# Altium integrated library Capacitors.IntLib: 88 symbols
Pins are listed as number, name and electrical type; pins without a type are passive.

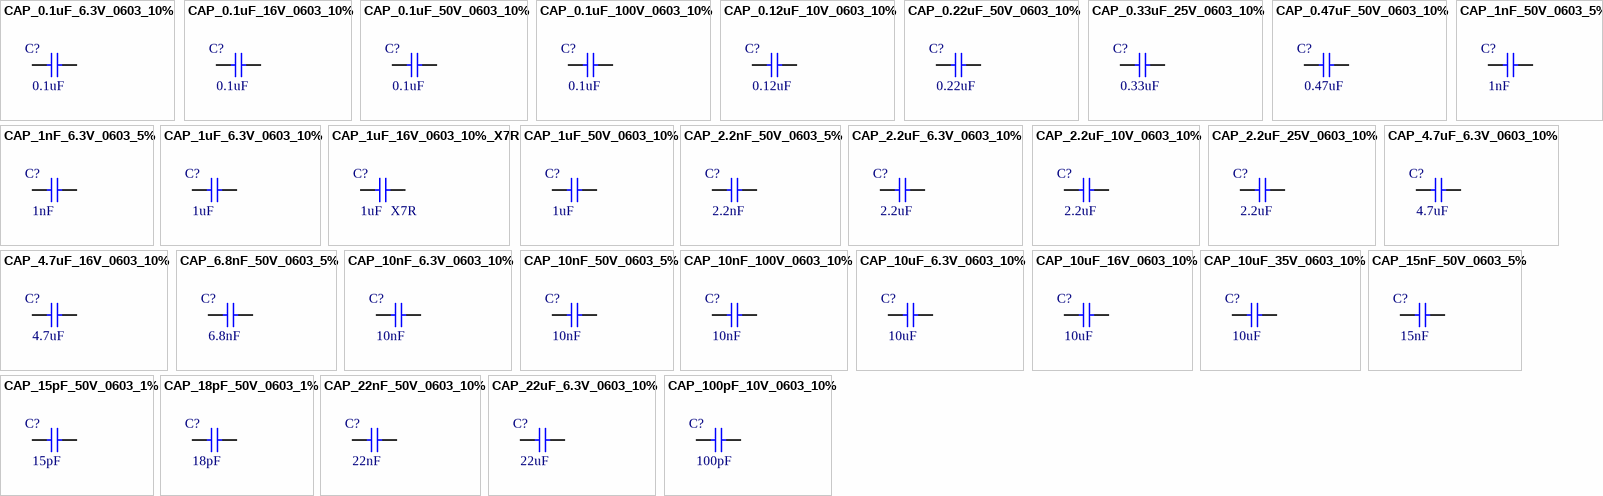
[diagram p0: symbols CAP_0.1uF_6.3V_0603_10% to CAP_100pF_10V_0603_10%]

## CAP_0.1uF_6.3V_0603_10%
designator C?, comment value 0.1uF  (hidden comment: 0.1uF 6.3V 0603)
0.1uF 6.3V 10% 0603 (1608 Metric); PartNumber: GRM188R70J104KA01D; Manufacturer: Murata; Mounting Technology: Surface Mount; PackageReference: 0603; PackageDescription: 0603 (1608 Metric); Voltage: 6.3V; Tolerance: 10%
footprint C0603[1608X92] (Chip Capacitor, Body 1.6x0.8mm)
pins: 1, 2

## CAP_0.1uF_16V_0603_10%
designator C?, comment value 0.1uF  (hidden comment: 0.1uF 16V 0603)
0.1uF 16V 10% 0603 (1608 Metric); PartNumber: GCM188R71C104KA37D; Manufacturer: Murata; TemperatureCoefficient: X7R; Mounting Technology: Surface Mount; PackageReference: 0603; PackageDescription: 0603 (1608 Metric); Voltage: 16V; Tolerance: 10%
footprint C0603[1608X92] (Chip Capacitor, Body 1.6x0.8mm)
pins: 1, 2

## CAP_0.1uF_50V_0603_10%
designator C?, comment value 0.1uF  (hidden comment: 0.1uF 50V 0603)
0.1uF 50V 10% 0603 (1608 Metric); PartNumber: GCM188R71H104KA57D; Manufacturer: Murata; TemperatureCoefficient: X7R; Mounting Technology: Surface Mount; PackageReference: 0603; PackageDescription: 0603 (1608 Metric); Voltage: 50V; Tolerance: 10%
footprint C0603[1608X92] (Chip Capacitor, Body 1.6x0.8mm)
pins: 1, 2

## CAP_0.1uF_100V_0603_10%
designator C?, comment value 0.1uF  (hidden comment: 0.1uF 100V 0603)
0.1uF 100V 10% 0603 (1608 Metric); PartNumber: GRM188R72A104KA35D; Manufacturer: Murata; TemperatureCoefficient: X7R; Mounting Technology: Surface Mount; PackageReference: 0603; PackageDescription: 0603 (1608 Metric); Voltage: 100V; Tolerance: 10%
footprint C0603[1608X92] (Chip Capacitor, Body 1.6x0.8mm)
pins: 1, 2

## CAP_0.12uF_10V_0603_10%
designator C?, comment value 0.12uF  (hidden comment: 0.12uF 10V 0603)
0.12uF 10V 10% 0603 (1608 Metric); PartNumber: GRM188R71A124KA01D; Manufacturer: Murata; TemperatureCoefficient: X7R; Mounting Technology: Surface Mount; PackageReference: 0603; PackageDescription: 0603 (1608 Metric); Voltage: 10V; Tolerance: 10%
footprint C0603[1608X92] (Chip Capacitor, Body 1.6x0.8mm)
pins: 1, 2

## CAP_0.22uF_50V_0603_10%
designator C?, comment value 0.22uF  (hidden comment: 0.22uF 50V 0603)
0.22uF 50V 10% 0603 (1608 Metric); PartNumber: GRM188R61H224KAC4D; Manufacturer: Murata; TemperatureCoefficient: X7R; Mounting Technology: Surface Mount; PackageReference: 0603; PackageDescription: 0603 (1608 Metric); Voltage: 50V; Tolerance: 10%
footprint C0603[1608X92] (Chip Capacitor, Body 1.6x0.8mm)
pins: 1, 2

## CAP_0.33uF_25V_0603_10%
designator C?, comment value 0.33uF  (hidden comment: 0.33uF 25V 0603)
0.33uF 25V 10% 0603 (1608 Metric); PartNumber: GCJ188R91E334KA01D; Manufacturer: Murata; TemperatureCoefficient: X8R; Mounting Technology: Surface Mount; PackageReference: 0603; PackageDescription: 0603 (1608 Metric); Voltage: 25V; Tolerance: 10%
footprint C0603[1608X92] (Chip Capacitor, Body 1.6x0.8mm)
pins: 1, 2

## CAP_0.47uF_50V_0603_10%
designator C?, comment value 0.47uF  (hidden comment: 0.47uF 50V 0603)
0.47uF 50V 10% 0603 (1608 Metric); PartNumber: GRM188R61H474KA12D; Manufacturer: Murata; TemperatureCoefficient: X5R; Mounting Technology: Surface Mount; PackageReference: 0603; PackageDescription: 0603 (1608 Metric); Voltage: 50V; Tolerance: 10%
footprint C0603[1608X92] (Chip Capacitor, Body 1.6x0.8mm)
pins: 1, 2

## CAP_1nF_6.3V_0603_5%
designator C?, comment value 1nF  (hidden comment: 1nF 6.3V 0603)
1nF 6.3V 5% 0603 (1608 Metric); PartNumber: 06036C102KAT4A; Manufacturer: AVX Corporation; Tolerance: 10%; TemperatureCoefficient: X7R; Mounting Technology: Surface Mount; PackageReference: 0603; PackageDescription: 0603 (1608 Metric); Voltage: 6.3V
footprint C0603[1608X92] (Chip Capacitor, Body 1.6x0.8mm)
pins: 1, 2

## CAP_1nF_50V_0603_5%
designator C?, comment value 1nF  (hidden comment: 1nF 50V 0603)
1nF 50V 5% 0603 (1608 Metric); PartNumber: GRM1885C1H102JA01D; Manufacturer: Murata; TemperatureCoefficient: C0G; Mounting Technology: Surface Mount; PackageReference: 0603; PackageDescription: 0603 (1608 Metric); Voltage: 50V; Tolerance: 5%
footprint C0603[1608X92] (Chip Capacitor, Body 1.6x0.8mm)
pins: 1, 2

## CAP_1uF_6.3V_0603_10%
designator C?, comment value 1uF  (hidden comment: 1uF 6.3V 0603)
1uF 6.3V 10% 0603 (1608 Metric); PartNumber: GRM188R60J105KA01D; Manufacturer: Murata; TemperatureCoefficient: X5R; Mounting Technology: Surface Mount; PackageReference: 0603; PackageDescription: 0603 (1608 Metric); Voltage: 6.3V; Tolerance: 10%
footprint C0603[1608X92] (Chip Capacitor, Body 1.6x0.8mm)
pins: 1, 2

## CAP_1uF_16V_0603_10%_X7R
designator C?, comment value 1uF  TemperatureCoefficient: X7R  (hidden comment: 1uF 16V 0603 X7R)
1uF 16V 10% 0603 X7R (1608 Metric); PartNumber: GCJ188R71E105KA01D; Manufacturer: Murata; Mounting Technology: Surface Mount; PackageReference: 0603; PackageDescription: 0603 (1608 Metric); Voltage: 16V; Tolerance: 10%
footprint C0603[1608X92] (Chip Capacitor, Body 1.6x0.8mm)
pins: 1, 2

## CAP_1uF_50V_0603_10%
designator C?, comment value 1uF  (hidden comment: 1uF 50V 0603)
1uF 50V 10% 0603 (1608 Metric); PartNumber: GRM188R61H105KAALD; Manufacturer: Murata; TemperatureCoefficient: X5R; Mounting Technology: Surface Mount; PackageReference: 0603; PackageDescription: 0603 (1608 Metric); Voltage: 50V; Tolerance: 10%
footprint C0603[1608X92] (Chip Capacitor, Body 1.6x0.8mm)
pins: 1, 2

## CAP_2.2nF_50V_0603_5%
designator C?, comment value 2.2nF  (hidden comment: 2.2nF 50V 0603)
2.2nF 50V 5% 0603 (1608 Metric); PartNumber: GRM1885C1H222JA01D; Manufacturer: Murata; TemperatureCoefficient: C0G; Mounting Technology: Surface Mount; PackageReference: 0603; PackageDescription: 0603 (1608 Metric); Voltage: 50V; Tolerance: 5%
footprint C0603[1608X92] (Chip Capacitor, Body 1.6x0.8mm)
pins: 1, 2

## CAP_2.2uF_6.3V_0603_10%
designator C?, comment value 2.2uF  (hidden comment: 2.2uF 6.3V 0603)
2.2uF 6.3V 10% 0603 (1608 Metric); PartNumber: GRM185R60J225KE26D; Manufacturer: Murata; TemperatureCoefficient: X5R; Mounting Technology: Surface Mount; PackageReference: 0603; PackageDescription: 0603 (1608 Metric); Voltage: 6.3V; Tolerance: 10%
footprint C0603[1608X92] (Chip Capacitor, Body 1.6x0.8mm)
pins: 1, 2

## CAP_2.2uF_10V_0603_10%
designator C?, comment value 2.2uF  (hidden comment: 2.2uF 10V 0603)
2.2uF 10V 10% 0603 (1608 Metric); PartNumber: GRT188R61A225KE13D; Manufacturer: Murata; TemperatureCoefficient: X5R; Mounting Technology: Surface Mount; PackageReference: 0603; PackageDescription: 0603 (1608 Metric); Voltage: 10V; Tolerance: 10%
footprint C0603[1608X92] (Chip Capacitor, Body 1.6x0.8mm)
pins: 1, 2

## CAP_2.2uF_25V_0603_10%
designator C?, comment value 2.2uF  (hidden comment: 2.2uF 25V 0603)
2.2uF 25V 10% 0603 (1608 Metric); PartNumber: GRM188R61E225KA12D; Manufacturer: Murata; TemperatureCoefficient: X5R; Mounting Technology: Surface Mount; PackageReference: 0603; PackageDescription: 0603 (1608 Metric); Voltage: 25V; Tolerance: 10%
footprint C0603[1608X92] (Chip Capacitor, Body 1.6x0.8mm)
pins: 1, 2

## CAP_4.7uF_6.3V_0603_10%
designator C?, comment value 4.7uF  (hidden comment: 4.7uF 6.3V 0603)
4.7uF 6.3V 10% 0603 (1608 Metric); PartNumber: GRM188R60J475KE19J; Manufacturer: Murata; TemperatureCoefficient: X5R; Mounting Technology: Surface Mount; PackageReference: 0603; PackageDescription: 0603 (1608 Metric); Voltage: 6.3V; Tolerance: 10%
footprint C0603[1608X92] (Chip Capacitor, Body 1.6x0.8mm)
pins: 1, 2

## CAP_4.7uF_16V_0603_10%
designator C?, comment value 4.7uF  (hidden comment: 4.7uF 16V 0603)
4.7uF 16V 10% 0603 (1608 Metric); PartNumber: GRM188R61A475KE15D; Manufacturer: Murata; TemperatureCoefficient: X5R; Mounting Technology: Surface Mount; PackageReference: 0603; PackageDescription: 0603 (1608 Metric); Voltage: 16V; Tolerance: 10%
footprint C0603[1608X92] (Chip Capacitor, Body 1.6x0.8mm)
pins: 1, 2

## CAP_6.8nF_50V_0603_5%
designator C?, comment value 6.8nF  (hidden comment: 6.8nF 50V 0603)
6.8nF 50V 5% 0603 (1608 Metric); PartNumber: GRM1885C1H682JA01D; Manufacturer: Murata; TemperatureCoefficient: C0G; Mounting Technology: Surface Mount; PackageReference: 0603; PackageDescription: 0603 (1608 Metric); Voltage: 50V; Tolerance: 5%
footprint C0603[1608X92] (Chip Capacitor, Body 1.6x0.8mm)
pins: 1, 2

## CAP_10nF_6.3V_0603_10%
designator C?, comment value 10nF  (hidden comment: 10nF 6.3V 0603)
10nF 6.3V 10% 0603 (1608 Metric); PartNumber: GRM188R70J103KA01D; Manufacturer: Murata; TemperatureCoefficient: X7R; Mounting Technology: Surface Mount; PackageReference: 0603; PackageDescription: 0603 (1608 Metric); Voltage: 6.3V; Tolerance: 10%
footprint C0603[1608X92] (Chip Capacitor, Body 1.6x0.8mm)
pins: 1, 2

## CAP_10nF_50V_0603_5%
designator C?, comment value 10nF  (hidden comment: 10nF 50V 0603)
10nF 50V 5% 0603 (1608 Metric); PartNumber: GRM188R71H103JA01D; Manufacturer: Murata; TemperatureCoefficient: X7R; Mounting Technology: Surface Mount; PackageReference: 0603; PackageDescription: 0603 (1608 Metric); Voltage: 50V; Tolerance: 5%
footprint C0603[1608X92] (Chip Capacitor, Body 1.6x0.8mm)
pins: 1, 2

## CAP_10nF_100V_0603_10%
designator C?, comment value 10nF  (hidden comment: 10nF 100V 0603)
10nF 100V 10% 0603 (1608 Metric); PartNumber: GRM188R72A103KA01D; Manufacturer: Murata; TemperatureCoefficient: X7R; Mounting Technology: Surface Mount; PackageReference: 0603; PackageDescription: 0603 (1608 Metric); Voltage: 100V; Tolerance: 10%
footprint C0603[1608X92] (Chip Capacitor, Body 1.6x0.8mm)
pins: 1, 2

## CAP_10uF_6.3V_0603_10%
designator C?, comment value 10uF  (hidden comment: 10uF 6.3V 0603)
10uF 6.3V 10% 0603 (1608 Metric); PartNumber: GRM188R60J106KE47D; Manufacturer: Murata; TemperatureCoefficient: X5R; Mounting Technology: Surface Mount; PackageReference: 0603; PackageDescription: 0603 (1608 Metric); Voltage: 6.3V; Tolerance: 10%
footprint C0603[1608X92] (Chip Capacitor, Body 1.6x0.8mm)
pins: 1, 2

## CAP_10uF_16V_0603_10%
designator C?, comment value 10uF  (hidden comment: 10uF 16V 0603)
10uF 16V 10% 0603 (1608 Metric); PartNumber: GRM188R61C106KAALD; Manufacturer: Murata; TemperatureCoefficient: X5R; Mounting Technology: Surface Mount; PackageReference: 0603; PackageDescription: 0603 (1608 Metric); Voltage: 16V; Tolerance: 10%
footprint C0603[1608X92] (Chip Capacitor, Body 1.6x0.8mm)
pins: 1, 2

## CAP_10uF_35V_0603_10%
designator C?, comment value 10uF  (hidden comment: 10uF 35V 0603)
10uF 35V 10% 0603 (1608 Metric); PartNumber: GRM188R6YA106MA73D; Manufacturer: Murata; TemperatureCoefficient: X5R; Mounting Technology: Surface Mount; PackageReference: 0603; PackageDescription: 0603 (1608 Metric); Voltage: 35V; Tolerance: 10%
footprint C0603[1608X92] (Chip Capacitor, Body 1.6x0.8mm)
pins: 1, 2

## CAP_15nF_50V_0603_5%
designator C?, comment value 15nF  (hidden comment: 15nF 50V 0603)
15nF 50V 5% 0603 (1608 Metric); PartNumber: GRM188R71H153JA01D; Manufacturer: Murata; TemperatureCoefficient: X7R; Mounting Technology: Surface Mount; PackageReference: 0603; PackageDescription: 0603 (1608 Metric); Voltage: 50V; Tolerance: 5%
footprint C0603[1608X92] (Chip Capacitor, Body 1.6x0.8mm)
pins: 1, 2

## CAP_15pF_50V_0603_1%
designator C?, comment value 15pF  (hidden comment: 15pF 50V 0603)
15pF 50V 1% 0603 (1608 Metric); PartNumber: 06035A150FAT2A; Manufacturer: AVX Corporation; TemperatureCoefficient: C0G; Mounting Technology: Surface Mount; PackageReference: 0603; PackageDescription: 0603 (1608 Metric); Voltage: 50V; Tolerance: 1%
footprint C0603[1608X92] (Chip Capacitor, Body 1.6x0.8mm)
pins: 1, 2

## CAP_18pF_50V_0603_1%
designator C?, comment value 18pF  (hidden comment: 18pF 50V 0603)
18pF 50V 1% 0603 (1608 Metric); PartNumber: 06035A180FAT2A; Manufacturer: AVX Corporation; TemperatureCoefficient: C0G; Mounting Technology: Surface Mount; PackageReference: 0603; PackageDescription: 0603 (1608 Metric); Voltage: 50V; Tolerance: 1%
footprint C0603[1608X92] (Chip Capacitor, Body 1.6x0.8mm)
pins: 1, 2

## CAP_22nF_50V_0603_10%
designator C?, comment value 22nF  (hidden comment: 22nF 50V 0603)
22nF 50V 10% 0603 (1608 Metric); PartNumber: GRM188R71H223KA01D; Manufacturer: Murata; TemperatureCoefficient: X7R; Mounting Technology: Surface Mount; PackageReference: 0603; PackageDescription: 0603 (1608 Metric); Voltage: 50V; Tolerance: 10%
footprint C0603[1608X92] (Chip Capacitor, Body 1.6x0.8mm)
pins: 1, 2

## CAP_22uF_6.3V_0603_10%
designator C?, comment value 22uF  (hidden comment: 22uF 6.3V 0603)
22uF 6.3V 10% 0603 (1608 Metric); PartNumber: GRT188R60J226ME13D; Manufacturer: Murata; Mounting Technology: Surface Mount; PackageReference: 0603; PackageDescription: 0603 (1608 Metric); Voltage: 6.3V; Tolerance: 10%; TemperatureCoefficient: *
footprint C0603[1608X92] (Chip Capacitor, Body 1.6x0.8mm)
pins: 1, 2

## CAP_100pF_10V_0603_10%
designator C?, comment value 100pF  (hidden comment: 100pF 10V 0603)
100pF 10V 10% 0603 (1608 Metric); PartNumber: 885012206003; Manufacturer: Wurth; TemperatureCoefficient: X7R; Mounting Technology: Surface Mount; PackageReference: 0603; PackageDescription: 0603 (1608 Metric); Voltage: 10V; Tolerance: 10%
footprint C0603[1608X92] (Chip Capacitor, Body 1.6x0.8mm)
pins: 1, 2


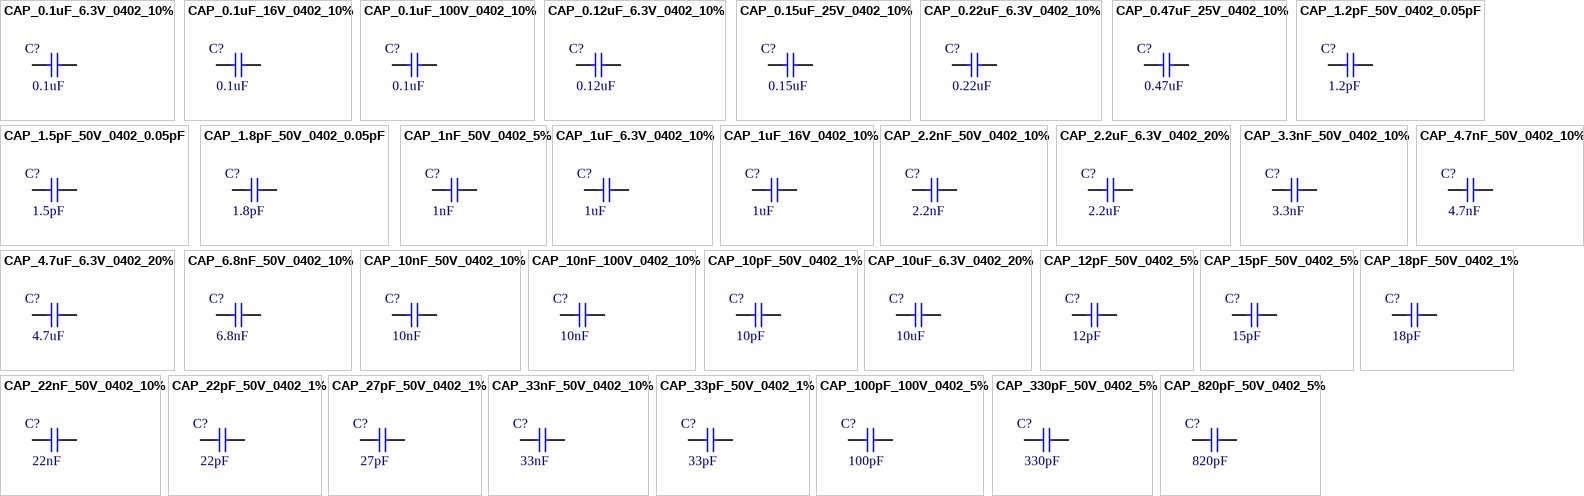
[diagram p1: symbols CAP_0.1uF_6.3V_0402_10% to CAP_820pF_50V_0402_5%]

## CAP_0.1uF_6.3V_0402_10%
designator C?, comment value 0.1uF  (hidden comment: 0.1uF 6.3V 0402)
0.1uF 6.3V 10% 0402 (1005 Metric); PartNumber: GRM155R70J104KA01D; Manufacturer: Murata; Mounting Technology: Surface Mount; PackageReference: 0402; PackageDescription: 0402 (1005 Metric); Voltage: 6.3V; Tolerance: 10%
footprint C0402[1005X55] (Chip Capacitor, Body 1.0x0.5mm)
pins: 1, 2

## CAP_0.1uF_16V_0402_10%
designator C?, comment value 0.1uF  (hidden comment: 0.1uF 16V 0402)
0.1uF 16V 10% 0402 (1005 Metric); PartNumber: GRM155R70J104KA01D; Manufacturer: Murata; Voltage: 6.3V; Mounting Technology: Surface Mount; PackageReference: 0402; PackageDescription: 0402 (1005 Metric); Tolerance: 10%
footprint C0402[1005X55] (Chip Capacitor, Body 1.0x0.5mm)
pins: 1, 2

## CAP_0.1uF_100V_0402_10%
designator C?, comment value 0.1uF  (hidden comment: 0.1uF 100V 0402)
0.1uF 100V 10% 0402 (1005 Metric); PartNumber: GRM155R62A104KE14D; Manufacturer: Murata; Mounting Technology: Surface Mount; PackageReference: 0402; PackageDescription: 0402 (1005 Metric); Voltage: 100V; Tolerance: 10%
footprint C0402[1005X55] (Chip Capacitor, Body 1.0x0.5mm)
pins: 1, 2

## CAP_0.12uF_6.3V_0402_10%
designator C?, comment value 0.12uF  (hidden comment: 0.12uF 6.3V 0402)
0.12uF 6.3V 10% 0402 (1005 Metric); PartNumber: GRM155R60J124KE01D; Manufacturer: Murata; Mounting Technology: Surface Mount; PackageReference: 0402; PackageDescription: 0402 (1005 Metric); Voltage: 6.3V; Tolerance: 10%
footprint C0402[1005X55] (Chip Capacitor, Body 1.0x0.5mm)
pins: 1, 2

## CAP_0.15uF_25V_0402_10%
designator C?, comment value 0.15uF  (hidden comment: 0.15uF 25V 0402)
0.15uF 25V 10% 0402 (1005 Metric); PartNumber: C1005X6S1E154K050BC; Manufacturer: TDK; Mounting Technology: Surface Mount; PackageReference: 0402; PackageDescription: 0402 (1005 Metric); Voltage: 25V; Tolerance: 10%
footprint C0402[1005X55] (Chip Capacitor, Body 1.0x0.5mm)
pins: 1, 2

## CAP_0.22uF_6.3V_0402_10%
designator C?, comment value 0.22uF  (hidden comment: 0.22uF 6.3V 0402)
0.22uF 6.3V 10% 0402 (1005 Metric); PartNumber: JMK105BJ224KV-F; Manufacturer: Taiyo Yuden; Mounting Technology: Surface Mount; PackageReference: 0402; PackageDescription: 0402 (1005 Metric); Voltage: 6.3V; Tolerance: 10%
footprint C0402[1005X55] (Chip Capacitor, Body 1.0x0.5mm)
pins: 1, 2

## CAP_0.47uF_25V_0402_10%
designator C?, comment value 0.47uF  (hidden comment: 0.47uF 25V 0402)
0.47uF 25V 10% 0402 (1005 Metric); PartNumber: GRM155R61E474KE01D; Manufacturer: Murata; Mounting Technology: Surface Mount; PackageReference: 0402; PackageDescription: 0402 (1005 Metric); Voltage: 25V; Tolerance: 10%
footprint C0402[1005X55] (Chip Capacitor, Body 1.0x0.5mm)
pins: 1, 2

## CAP_1.2pF_50V_0402_0.05pF
designator C?, comment value 1.2pF  (hidden comment: 1.2pF 50V 0402)
1.2pF 50V 0.05pF 0402 (1005 Metric); PartNumber: GRM1555C1H1R2WA01D; Manufacturer: Murata; Mounting Technology: Surface Mount; PackageReference: 0402; PackageDescription: 0402 (1005 Metric); Voltage: 50V; Tolerance: 0.05pF
footprint C0402[1005X55] (Chip Capacitor, Body 1.0x0.5mm)
pins: 1, 2

## CAP_1.5pF_50V_0402_0.05pF
designator C?, comment value 1.5pF  (hidden comment: 1.5pF 50V 0402)
1.5pF 50V 0.05pF 0402 (1005 Metric); PartNumber: GRM1555C1H1R5WA01D; Manufacturer: Murata; Mounting Technology: Surface Mount; PackageReference: 0402; PackageDescription: 0402 (1005 Metric); Voltage: 50V; Tolerance: 0.05pF
footprint C0402[1005X55] (Chip Capacitor, Body 1.0x0.5mm)
pins: 1, 2

## CAP_1.8pF_50V_0402_0.05pF
designator C?, comment value 1.8pF  (hidden comment: 1.8pF 50V 0402)
1.8pF 50V 0.05pF 0402 (1005 Metric); PartNumber: GRM1555C1H1R8WA01D; Manufacturer: Murata; Mounting Technology: Surface Mount; PackageReference: 0402; PackageDescription: 0402 (1005 Metric); Voltage: 50V; Tolerance: 0.05pF
footprint C0402[1005X55] (Chip Capacitor, Body 1.0x0.5mm)
pins: 1, 2

## CAP_1nF_50V_0402_5%
designator C?, comment value 1nF  (hidden comment: 1nF 50V 0402)
1nF 50V 5% 0402 (1005 Metric); PartNumber: GRM1555C1H102JA01D; Manufacturer: Murata; Mounting Technology: Surface Mount; PackageReference: 0402; PackageDescription: 0402 (1005 Metric); Voltage: 50V; Tolerance: 5%
footprint C0402[1005X55] (Chip Capacitor, Body 1.0x0.5mm)
pins: 1, 2

## CAP_1uF_6.3V_0402_10%
designator C?, comment value 1uF  (hidden comment: 1uF 6.3V 0402)
1uF 6.3V 10% 0402 (1005 Metric); PartNumber: GRM155R70J105KA12D; Manufacturer: Murata; Mounting Technology: Surface Mount; PackageReference: 0402; PackageDescription: 0402 (1005 Metric); Voltage: 6.3V; Tolerance: 10%
footprint C0402[1005X55] (Chip Capacitor, Body 1.0x0.5mm)
pins: 1, 2

## CAP_1uF_16V_0402_10%
designator C?, comment value 1uF  (hidden comment: 1uF 16V 0402)
1uF 16V 10% 0402 (1005 Metric); PartNumber: GRM155R61C105KE01D; Manufacturer: Murata; Mounting Technology: Surface Mount; PackageReference: 0402; PackageDescription: 0402 (1005 Metric); Voltage: 16V; Tolerance: 10%
footprint C0402[1005X55] (Chip Capacitor, Body 1.0x0.5mm)
pins: 1, 2

## CAP_2.2nF_50V_0402_10%
designator C?, comment value 2.2nF  (hidden comment: 2.2nF 50V 0402)
2.2nF 50V 10% 0402 (1005 Metric); PartNumber: GCM155R71H222KA37D; Manufacturer: Murata; Mounting Technology: Surface Mount; PackageReference: 0402; PackageDescription: 0402 (1005 Metric); Voltage: 50V; Tolerance: 10%
footprint C0402[1005X55] (Chip Capacitor, Body 1.0x0.5mm)
pins: 1, 2

## CAP_2.2uF_6.3V_0402_20%
designator C?, comment value 2.2uF  (hidden comment: 2.2uF 6.3V 0402)
2.2uF 6.3V 20% 0402 (1005 Metric); PartNumber: GRM155R60J225ME15D; Manufacturer: Murata; Mounting Technology: Surface Mount; PackageReference: 0402; PackageDescription: 0402 (1005 Metric); Voltage: 6.3V; Tolerance: 20%
footprint C0402[1005X55] (Chip Capacitor, Body 1.0x0.5mm)
pins: 1, 2

## CAP_3.3nF_50V_0402_10%
designator C?, comment value 3.3nF  (hidden comment: 3.3nF 50V 0402)
3.3nF 50V 10% 0402 (1005 Metric); PartNumber: GRM155R71H332KA01D; Manufacturer: Murata; Mounting Technology: Surface Mount; PackageReference: 0402; PackageDescription: 0402 (1005 Metric); Voltage: 50V; Tolerance: 10%
footprint C0402[1005X55] (Chip Capacitor, Body 1.0x0.5mm)
pins: 1, 2

## CAP_4.7nF_50V_0402_10%
designator C?, comment value 4.7nF  (hidden comment: 4.7nF 50V 0402)
4.7nF 50V 10% 0402 (1005 Metric); PartNumber: GRM155R71H472KA01D; Manufacturer: Murata; Mounting Technology: Surface Mount; PackageReference: 0402; PackageDescription: 0402 (1005 Metric); Voltage: 50V; Tolerance: 10%
footprint C0402[1005X55] (Chip Capacitor, Body 1.0x0.5mm)
pins: 1, 2

## CAP_4.7uF_6.3V_0402_20%
designator C?, comment value 4.7uF  (hidden comment: 4.7uF 6.3V 0402)
4.7uF 6.3V 20% 0402 (1005 Metric); PartNumber: GRM155R60J475ME47D; Manufacturer: Murata; Mounting Technology: Surface Mount; PackageReference: 0402; PackageDescription: 0402 (1005 Metric); Voltage: 6.3V; Tolerance: 20%
footprint C0402[1005X55] (Chip Capacitor, Body 1.0x0.5mm)
pins: 1, 2

## CAP_6.8nF_50V_0402_10%
designator C?, comment value 6.8nF  (hidden comment: 6.8nF 50V 0402)
6.8nF 50V 10% 0402 (1005 Metric); PartNumber: GRM155R71H682KA88J; Manufacturer: Murata; Mounting Technology: Surface Mount; PackageReference: 0402; PackageDescription: 0402 (1005 Metric); Voltage: 50V; Tolerance: 10%
footprint C0402[1005X55] (Chip Capacitor, Body 1.0x0.5mm)
pins: 1, 2

## CAP_10nF_50V_0402_10%
designator C?, comment value 10nF  (hidden comment: 10nF 50V 0402)
10nF 50V 10% 0402 (1005 Metric); PartNumber: GCM155R71H103KA55D; Manufacturer: Murata; Mounting Technology: Surface Mount; PackageReference: 0402; PackageDescription: 0402 (1005 Metric); Voltage: 50V; Tolerance: 10%
footprint C0402[1005X55] (Chip Capacitor, Body 1.0x0.5mm)
pins: 1, 2

## CAP_10nF_100V_0402_10%
designator C?, comment value 10nF  (hidden comment: 10nF 100V 0402)
10nF 100V 10% 0402 (1005 Metric); PartNumber: C1005X7S2A103K050BB; Manufacturer: TDK; Mounting Technology: Surface Mount; PackageReference: 0402; PackageDescription: 0402 (1005 Metric); Voltage: 100V; Tolerance: 10%
footprint C0402[1005X55] (Chip Capacitor, Body 1.0x0.5mm)
pins: 1, 2

## CAP_10pF_50V_0402_1%
designator C?, comment value 10pF  (hidden comment: 10pF 50V 0402)
10pF 50V 1% 0402 (1005 Metric); PartNumber: GRM1555C1H100FA01D; Manufacturer: Murata; Mounting Technology: Surface Mount; PackageReference: 0402; PackageDescription: 0402 (1005 Metric); Voltage: 50V; Tolerance: 1%
footprint C0402[1005X55] (Chip Capacitor, Body 1.0x0.5mm)
pins: 1, 2

## CAP_10uF_6.3V_0402_20%
designator C?, comment value 10uF  (hidden comment: 10uF 6.3V 0402)
10uF 6.3V 20% 0402 (1005 Metric); PartNumber: GRM155R60J106ME44D; Manufacturer: Murata; Mounting Technology: Surface Mount; PackageReference: 0402; PackageDescription: 0402 (1005 Metric); Voltage: 6.3V; Tolerance: 20%
footprint C0402[1005X55] (Chip Capacitor, Body 1.0x0.5mm)
pins: 1, 2

## CAP_12pF_50V_0402_5%
designator C?, comment value 12pF  (hidden comment: 12pF 50V 0402)
12pF 50V 5% 0402 (1005 Metric); PartNumber: GRM1555C1H120JA01D; Manufacturer: Murata; Mounting Technology: Surface Mount; PackageReference: 0402; PackageDescription: 0402 (1005 Metric); Voltage: 50V; Tolerance: 5%
footprint C0402[1005X55] (Chip Capacitor, Body 1.0x0.5mm)
pins: 1, 2

## CAP_15pF_50V_0402_5%
designator C?, comment value 15pF  (hidden comment: 15pF 50V 0402)
15pF 50V 5% 0402 (1005 Metric); PartNumber: GRM1555C1H150JA01D; Manufacturer: Murata; Mounting Technology: Surface Mount; PackageReference: 0402; PackageDescription: 0402 (1005 Metric); Voltage: 50V; Tolerance: 5%
footprint C0402[1005X55] (Chip Capacitor, Body 1.0x0.5mm)
pins: 1, 2

## CAP_18pF_50V_0402_1%
designator C?, comment value 18pF  (hidden comment: 18pF 50V 0402)
18pF 50V 1% 0402 (1005 Metric); PartNumber: GRM1555C1H180FA01D; Manufacturer: Murata; Mounting Technology: Surface Mount; PackageReference: 0402; PackageDescription: 0402 (1005 Metric); Voltage: 50V; Tolerance: 1%
footprint C0402[1005X55] (Chip Capacitor, Body 1.0x0.5mm)
pins: 1, 2

## CAP_22nF_50V_0402_10%
designator C?, comment value 22nF  (hidden comment: 22nF 50V 0402)
22nF 50V 10% 0402 (1005 Metric); PartNumber: GRM155R71H223KA12J; Manufacturer: Murata; Mounting Technology: Surface Mount; PackageReference: 0402; PackageDescription: 0402 (1005 Metric); Voltage: 50V; Tolerance: 10%
footprint C0402[1005X55] (Chip Capacitor, Body 1.0x0.5mm)
pins: 1, 2

## CAP_22pF_50V_0402_1%
designator C?, comment value 22pF  (hidden comment: 22pF 50V 0402)
22pF 50V 1% 0402 (1005 Metric); PartNumber: GRM1555C1H220FA01D; Manufacturer: Murata; Mounting Technology: Surface Mount; PackageReference: 0402; PackageDescription: 0402 (1005 Metric); Voltage: 50V; Tolerance: 1%
footprint C0402[1005X55] (Chip Capacitor, Body 1.0x0.5mm)
pins: 1, 2

## CAP_27pF_50V_0402_1%
designator C?, comment value 27pF  (hidden comment: 27pF 50V 0402)
27pF 50V 1% 0402 (1005 Metric); PartNumber: GRM1555C1H270FA01D; Manufacturer: Murata; Mounting Technology: Surface Mount; PackageReference: 0402; PackageDescription: 0402 (1005 Metric); Voltage: 50V; Tolerance: 1%
footprint C0402[1005X55] (Chip Capacitor, Body 1.0x0.5mm)
pins: 1, 2

## CAP_33nF_50V_0402_10%
designator C?, comment value 33nF  (hidden comment: 33nF 50V 0402)
33nF 50V 10% 0402 (1005 Metric); PartNumber: GRM155R71H333KE14D; Manufacturer: Murata; Mounting Technology: Surface Mount; PackageReference: 0402; PackageDescription: 0402 (1005 Metric); Voltage: 50V; Tolerance: 10%
footprint C0402[1005X55] (Chip Capacitor, Body 1.0x0.5mm)
pins: 1, 2

## CAP_33pF_50V_0402_1%
designator C?, comment value 33pF  (hidden comment: 33pF 50V 0402)
33pF 50V 1% 0402 (1005 Metric); PartNumber: GCM1555C1H330FA16D; Manufacturer: Murata; Mounting Technology: Surface Mount; PackageReference: 0402; PackageDescription: 0402 (1005 Metric); Voltage: 50V; Tolerance: 1%
footprint C0402[1005X55] (Chip Capacitor, Body 1.0x0.5mm)
pins: 1, 2

## CAP_100pF_100V_0402_5%
designator C?, comment value 100pF  (hidden comment: 100pF 100V 0402)
100pF 100V 5% 0402 (1005 Metric); PartNumber: GRM1555C2A101JA01D; Manufacturer: Murata; Mounting Technology: Surface Mount; PackageReference: 0402; PackageDescription: 0402 (1005 Metric); Voltage: 100V; Tolerance: 5%
footprint C0402[1005X55] (Chip Capacitor, Body 1.0x0.5mm)
pins: 1, 2

## CAP_330pF_50V_0402_5%
designator C?, comment value 330pF  (hidden comment: 330pF 50V 0402)
330pF 50V 5% 0402 (1005 Metric); PartNumber: GRM1555C1H331JA01D; Manufacturer: Murata; Mounting Technology: Surface Mount; PackageReference: 0402; PackageDescription: 0402 (1005 Metric); Voltage: 50V; Tolerance: 5%
footprint C0402[1005X55] (Chip Capacitor, Body 1.0x0.5mm)
pins: 1, 2

## CAP_820pF_50V_0402_5%
designator C?, comment value 820pF  (hidden comment: 820pF 50V 0402)
820pF 50V 5% 0402 (1005 Metric); PartNumber: GRM1555C1H821JA01D; Manufacturer: Murata; Mounting Technology: Surface Mount; PackageReference: 0402; PackageDescription: 0402 (1005 Metric); Voltage: 50V; Tolerance: 5%
footprint C0402[1005X55] (Chip Capacitor, Body 1.0x0.5mm)
pins: 1, 2


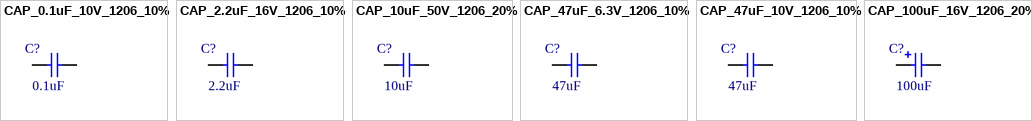
[diagram p2: symbols CAP_0.1uF_10V_1206_10% to CAP_100uF_16V_1206_20%]

## CAP_0.1uF_10V_1206_10%
designator C?, comment value 0.1uF  (hidden comment: 0.1uF 10V 1206)
0.1uF 10V 10% 1206 (3216 Metric); PartNumber: 885012208009; Manufacturer: Wurth; Mounting Technology: Surface Mount; PackageReference: 1206; PackageDescription: 1206 (3216 Metric); Voltage: 10V; Tolerance: 10%
footprint C1206[3216X160] (Chip Capacitor, Body 3.2x1.6mm)
pins: 1, 2

## CAP_2.2uF_16V_1206_10%
designator C?, comment value 2.2uF  (hidden comment: 2.2uF 16V 1206)
2.2uF 16V 10% X7R 1206 (3216 Metric); PartNumber: C1206C225K4RACAUTO; Manufacturer: KEMET; Mounting Technology: Surface Mount; PackageReference: 1206; PackageDescription: 1206 (3216 Metric); Voltage: 16V; Tolerance: 10%
footprint C1206[3216X160] (Chip Capacitor, Body 3.2x1.6mm)
pins: 1, 2

## CAP_10uF_50V_1206_20%
designator C?, comment value 10uF  (hidden comment: 10uF 50V 1206)
10uF 50V 20% 1206 (3216 Metric); PartNumber: UMK316BBJ106ML-T; Manufacturer: Taiyo Yuden; Mounting Technology: Surface Mount; PackageReference: 1206; PackageDescription: 1206 (3216 Metric); Voltage: 50V; Tolerance: 20%
footprint C1206[3216X160] (Chip Capacitor, Body 3.2x1.6mm)
pins: 1, 2

## CAP_47uF_6.3V_1206_10%
designator C?, comment value 47uF  (hidden comment: 47uF 6.3V 1206)
47uF 6.3V 10% 1206 (3216 Metric); PartNumber: GRM31CR60J476KE19L; Manufacturer: Murata; Mounting Technology: Surface Mount; PackageReference: 1206; PackageDescription: 1206 (3216 Metric); Voltage: 6.3V; Tolerance: 10%
footprint C1206[3216X160] (Chip Capacitor, Body 3.2x1.6mm)
pins: 1, 2

## CAP_47uF_10V_1206_10%
designator C?, comment value 47uF  (hidden comment: 47uF 10V 1206)
47uF 10V 10% 1206 (3216 Metric); PartNumber: GRM31CR61A476KE15L; Manufacturer: Murata; Mounting Technology: Surface Mount; PackageReference: 1206; PackageDescription: 1206 (3216 Metric); Voltage: 10V; Tolerance: 10%
footprint C1206[3216X160] (Chip Capacitor, Body 3.2x1.6mm)
pins: 1, 2

## CAP_100uF_16V_1206_20%
designator C?, comment value 100uF  (hidden comment: 100uF 16V 1206)
TANTAL 100uF 16V 20% 1206 (3216 Metric); PartNumber: F931C107MCCAJ6; Manufacturer: AVX Corporation; Mounting Technology: Surface Mount; PackageReference: 1206; PackageDescription: 1206 (3216 Metric); Voltage: 16V; Tolerance: 20%
footprint C1206[3216X105]_Tantal (Tantal Capacitor, Body 3.2x1.6mm)
pins: 1, 2


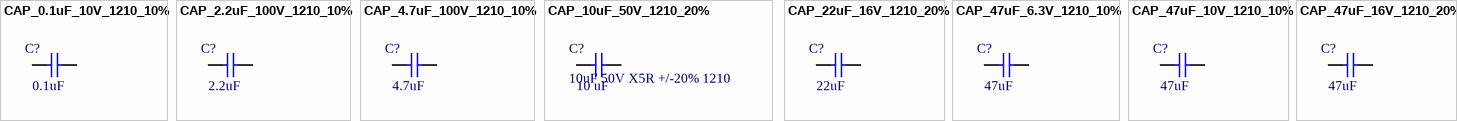
[diagram p3: symbols CAP_0.1uF_10V_1210_10% to CAP_47uF_16V_1210_20%]

## CAP_0.1uF_10V_1210_10%
designator C?, comment value 0.1uF  (hidden comment: 0.1uF 10V 1210)
0.1uF 10V 10% 1210 (3225 Metric); Manufacturer: Murata; Mounting Technology: Surface Mount; PackageReference: 1210; PackageDescription: 1210 (3225 Metric); Voltage: 10V; Tolerance: 10%
footprint C1210[3225X200] (Chip Capacitor, Body 3.2x2.5mm)
pins: 1, 2

## CAP_2.2uF_100V_1210_10%
designator C?, comment value 2.2uF  (hidden comment: 2.2uF 100V 1210)
2.2uF 100V 10% 1210 (3225 Metric); PartNumber: GRM32ER72A225KA35; Manufacturer: Murata; Mounting Technology: Surface Mount; PackageReference: 1210; PackageDescription: 1210 (3225 Metric); Voltage: 100V; Tolerance: 10%
footprint C1210[3225X200] (Chip Capacitor, Body 3.2x2.5mm)
pins: 1, 2

## CAP_4.7uF_100V_1210_10%
designator C?, comment value 4.7uF  (hidden comment: 4.7uF 100V 1210)
4.7uF 100V 10% 1210 (3225 Metric); PartNumber: GRJ32DC72A475KE11L; Manufacturer: Murata; Mounting Technology: Surface Mount; PackageReference: 1210; PackageDescription: 1210 (3225 Metric); Voltage: 100V; Tolerance: 10%
footprint C1210[3225X200] (Chip Capacitor, Body 3.2x2.5mm)
pins: 1, 2

## CAP_10uF_50V_1210_20%
designator C?, comment 10uF 50V X5R +/-20% 1210  value 10 uF
Manufacturer: Taiyo Yuden; PartNumber: UMK325BJ106MM-T; Tolerance: 20%; Voltage: 50V; Mounting Technology: Surface Mount; PackageReference: 1210; PackageDescription: 1210 (3325 Metric)
footprint C1210[3225X150] (Chip Capacitor, Body 3.2x2.5mm)
pins: 1, 2

## CAP_22uF_16V_1210_20%
designator C?, comment value 22uF  (hidden comment: 22uF 16V 1210)
22uF 16V 20% 1210 (3225 Metric); PartNumber: GCJ32ER71C226KE01L; Manufacturer: Murata; Tolerance: 10%; Mounting Technology: Surface Mount; PackageReference: 1210; PackageDescription: 1210 (3225 Metric); Voltage: 16V
footprint C1210[3225X250] (Chip Capacitor, Body 3.2x2.5mm)
pins: 1, 2

## CAP_47uF_6.3V_1210_10%
designator C?, comment value 47uF  (hidden comment: 47uF 6.3V 1210)
47uF 6.3V 10% 1210 (3225 Metric); PartNumber: GRM32ER70J476KE20L; Manufacturer: Murata; Mounting Technology: Surface Mount; PackageReference: 1210; PackageDescription: 1210 (3225 Metric); Voltage: 6.3V; Tolerance: 10%
footprint C1210[3225X250] (Chip Capacitor, Body 3.2x2.5mm)
pins: 1, 2

## CAP_47uF_10V_1210_10%
designator C?, comment value 47uF  (hidden comment: 47uF 10V 1210)
47uF 10V 10% 1210 (3225 Metric); PartNumber: GRM32ER71A476KE15L; Manufacturer: Murata; Mounting Technology: Surface Mount; PackageReference: 1210; PackageDescription: 1210 (3225 Metric); Voltage: 10V; Tolerance: 10%
footprint C1210[3225X250] (Chip Capacitor, Body 3.2x2.5mm)
pins: 1, 2

## CAP_47uF_16V_1210_20%
designator C?, comment value 47uF  (hidden comment: 47uF 16V 1210)
47uF 16V 20% 1210 (3225 Metric); PartNumber: GRM32ER61C476ME15L; Manufacturer: Murata; Mounting Technology: Surface Mount; PackageReference: 1210; PackageDescription: 1210 (3225 Metric); Voltage: 16V; Tolerance: 20%
footprint C1210[3225X250] (Chip Capacitor, Body 3.2x2.5mm)
pins: 1, 2


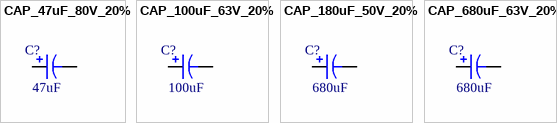
[diagram p4: symbols CAP_47uF_80V_20% to CAP_680uF_63V_20%]

## CAP_47uF_80V_20%
designator C?, comment value 47uF  (hidden comment: 47uF 80V)
47uF 80V 20%; PartNumber: EEE-FK1K470P; Manufacturer: Panasonic; Mounting Technology: Surface Mount; PackageReference: 1H; PackageDescription: 10mm; Voltage: 80V; Tolerance: 20%
footprint CAP_EEFK_G
pins: 1, 2

## CAP_100uF_63V_20%
designator C?, comment value 100uF  (hidden comment: 100uF 63V)
100uF 63V 20%; PartNumber: PCR1J101MCL1GS; Manufacturer: Nichicon; Mounting Technology: Surface Mount; PackageReference: 1H; PackageDescription: 10x12.7mm; Voltage: 63V; Tolerance: 20%
footprint CAP-ELECTROLYTIC[10.0x12.6]
pins: 1, 2

## CAP_180uF_50V_20%
designator C?, comment value 680uF  (hidden comment: 180uF 50V)
180uF 50V 20%; PartNumber: PCR1H181MCL1GS; Manufacturer: Nichicon; Mounting Technology: Surface Mount; PackageReference: 1H; PackageDescription: 5mm; Voltage: 50V; Tolerance: 20%
footprint CAP-ELECTROLYTIC[10.0x12.6]
pins: 1, 2

## CAP_680uF_63V_20%
designator C?, comment value 680uF  (hidden comment: 680uF 63V)
680uF 63V 20%  EC; PartNumber: EKZN630ELL681MK30S; Manufacturer: United Chemi-Con; Mounting Technology: Through Hall; PackageReference: 1H; PackageDescription: 12.5x31.5mm; Voltage: 63V; Tolerance: 20%
footprint CAP_ELEC_THRU_5MM_HORZ
pins: 1, 2


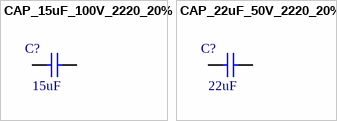
[diagram p5: symbols CAP_15uF_100V_2220_20% to CAP_22uF_50V_2220_20%]

## CAP_15uF_100V_2220_20%
designator C?, comment value 15uF  (hidden comment: 15uF 100V 2220)
15uF 100V 20% 2220 (5750 Metric); PartNumber: C5750X7S2A156M250KB; Manufacturer: TDK; Mounting Technology: Surface Mount; PackageReference: 2220; PackageDescription: 2220 (5750 Metric); Voltage: 100V; Tolerance: 20%
footprint C2220[5750X230] (Chip Capacitor, Body 5.7x5.0mm)
pins: 1, 2

## CAP_22uF_50V_2220_20%
designator C?, comment value 22uF  (hidden comment: 22uF 50V 2220)
22uF 50V 20% 2220 (5750 Metric); PartNumber: KRM55TR71H226MH01K; Manufacturer: Murata; Mounting Technology: Surface Mount; PackageReference: 2220; PackageDescription: 2220 (5750 Metric); Voltage: 50V; Tolerance: 20%
footprint C2220[5750X480] (Chip Capacitor, Body 5.7x5.0mm)
pins: 1, 2


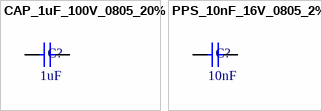
[diagram p6: symbols CAP_1uF_100V_0805_20% to PPS_10nF_16V_0805_2%]

## CAP_1uF_100V_0805_20%
designator C?, comment 1uF
CAP_1uF 100V 20% 0805 (2012 metric); Manufacturer: TDK; PartNumber: C2012X7S2A474M125AE; Mounting Technology: Surface Mount; Voltage: 100V; Package Description: 0805 (2012 Metric); Package Reference: 0805; Tolerance: 20%; Value: 1uF
footprint C0805[2012X120] (Chip Capacitor, Body 2.0x1.25mm)
pins: 1, 2

## PPS_10nF_16V_0805_2%
designator C?, comment value 10nF  (hidden comment: 1uF)
PPS_10nF 16V 2% 0805 (2012 metric); Manufacturer: Panasonic; PartNumber: ECH-U1C103GX5; Mounting Technology: Surface Mount; Voltage: 16V; Package Description: 0805 (2012 Metric); Package Reference: 0805; Tolerance: 2%
footprint C0805[2012X120] (Chip Capacitor, Body 2.0x1.25mm)
pins: 1, 2